# Altium schematic symbol library TL084 BUFFER.SchLib: 1 symbol
Pins are listed as number, name and electrical type; pins without a type are passive.

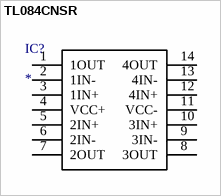
[diagram p0: symbol TL084CNSR]

## TL084CNSR
designator IC?
Integrated Circuit; Manufacturer_Name: Texas Instruments; Manufacturer_Part_Number: TL084CNSR; Description: Quad High Slew Rate JFET-Input Operational Amplifier; Datasheet Link: http://www.ti.com/lit/gpn/tl084; Height: 2mm; Mouser Part Number: 595-TL084CNSR; Mouser Price/Stock: https://www.mouser.com/Search/Refine.aspx?Keyword=595-TL084CNSR; RS Part Number: 1626742; RS Price/Stock: http://uk.rs-online.com/web/p/products/1626742
footprint SOIC127P780X200-14N
pins: 1 1OUT, 2 1IN-, 3 1IN+, 4 VCC+, 5 2IN+, 6 2IN-, 7 2OUT, 8 3OUT, 9 3IN-, 10 3IN+, 11 VCC-, 12 4IN+, 13 4IN-, 14 4OUT